# EAGLE library part 61000621821 (library Board_to_Board_Connectors_rev15d)
WR-PHD 2.54mm Dual SMT Socket Header, 6 Pins=>Code : Con_BTB_SHD_2.54_1_SMT_61000621821 <http://katalog.we-online.de/media/images/eican/Con_BTB_SHD_2.54_1_SMT_6100xx21821_pf2.jpg> Details see: http://katalog.we-online.de/en/em/610_0xx_218_21 Created 2014-06-03, Karrer Zheng 2014 (C) Würth Elektronik
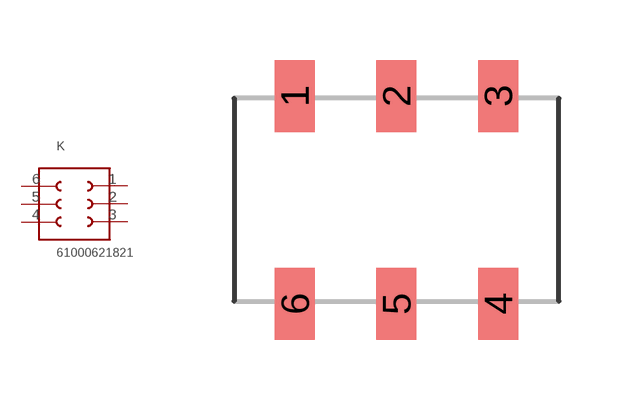
[diagram p212: symbol with the pads of 61000621821; footprint 61000621821]

Designator prefix K

## 61000621821  [61000621821]
1  1  pas
2  2  pas
3  3  pas
4  4  pas
5  5  pas
6  6  pas

## Footprint 61000621821 (pad centres in mm)
WR-PHD 2.54mm Dual SMT Socket Header, 6 Pins
smd 1 x 1.8: 1 -2.54,2.6; 2 0,2.6; 3 2.54,2.6; 4 2.54,-2.6; 5 0,-2.6; 6 -2.54,-2.6